# Altium footprint library myPCB.PcbLib: 96 footprints (part 5 of 6)
Each footprint in its own frame and in the unit in brackets; x right, y up, seen from the top. Pads: shape width x height; smd on the part's side, far side on the other; paste and mask are expansions set on the pad; w line width, h text height; cw(c..) or ccw(c..) is an arc to the next point about the centre after c.
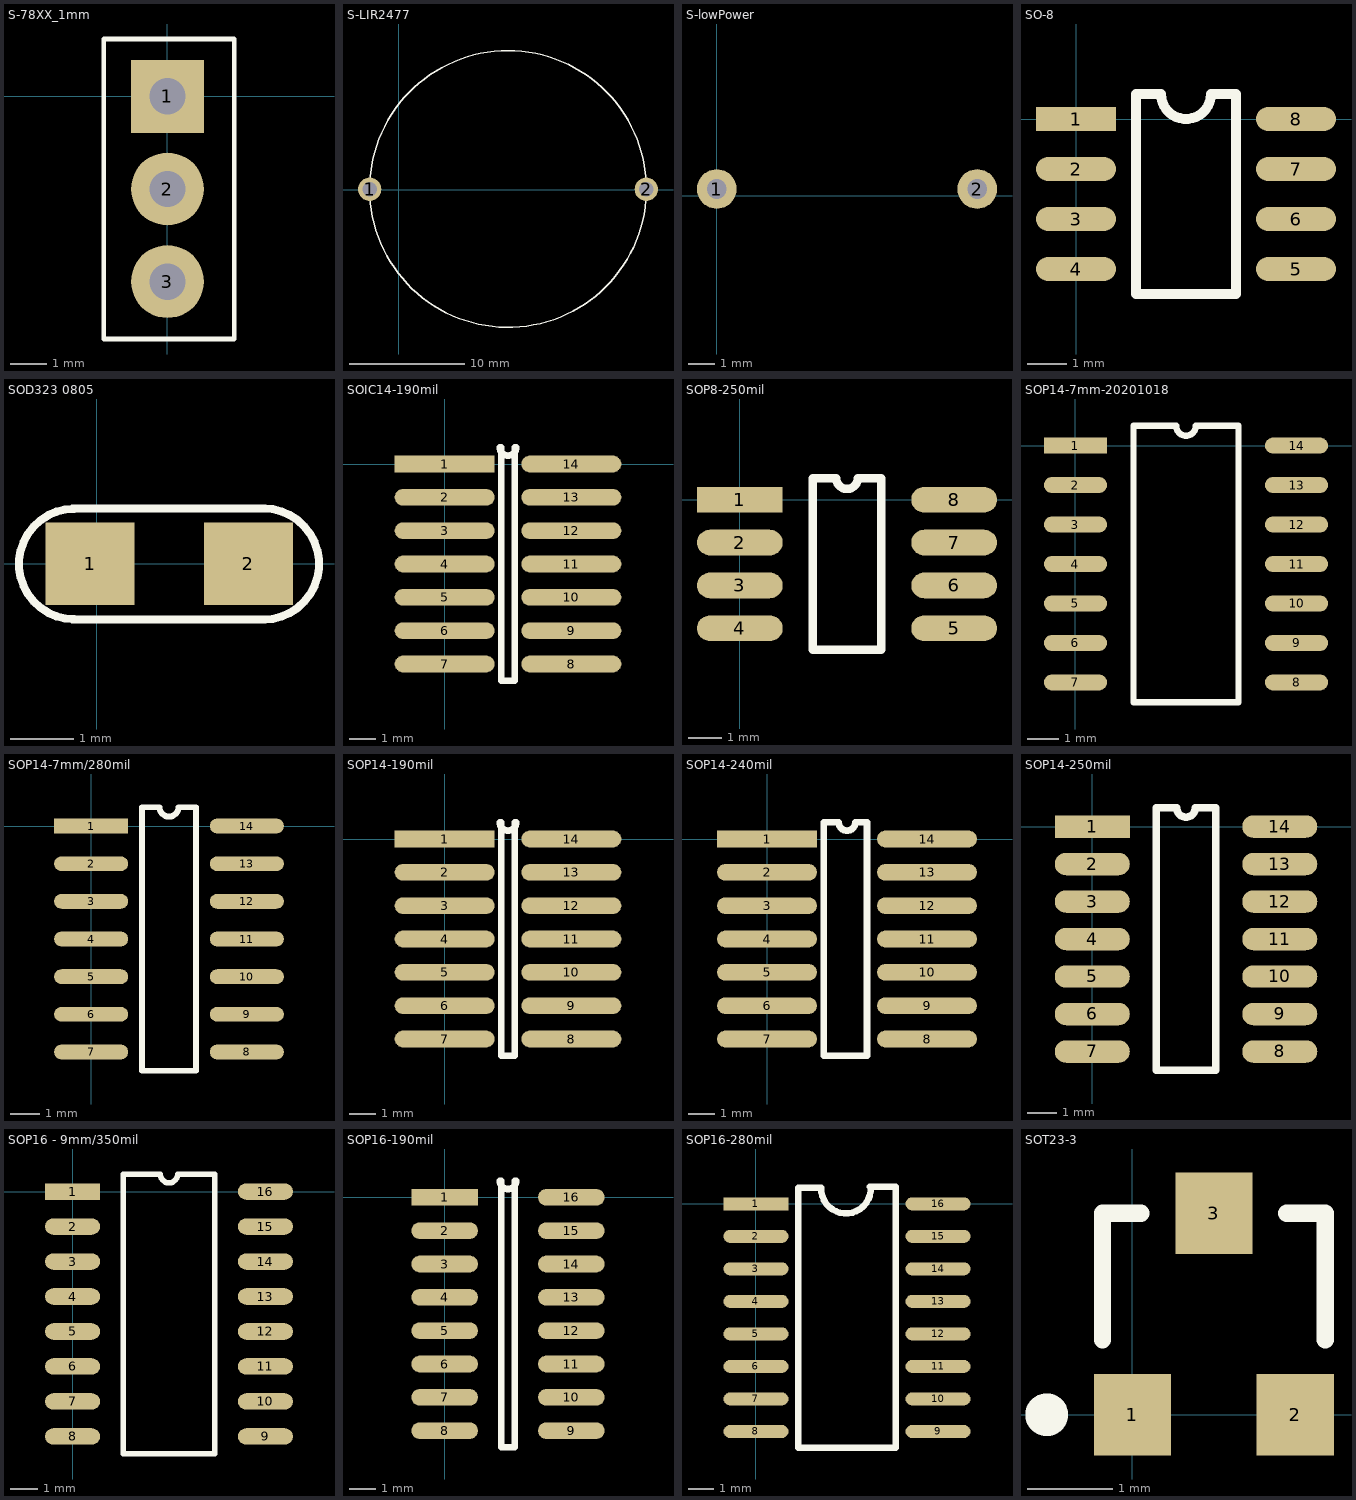
[diagram p4: the footprints below, top view; thin cyan lines are the x and y axes]

## S-78XX_1mm [mm] "孔的大小为1mm"
pads (3):
  rect 2x2 hole 1: 1(0,0)
  round 2 hole 1: 2(0,-2.54) 3(0,-5.08)
Top Overlay:
  lines w0.127: -1.753,-6.655 1.835,-6.655 1.835,1.575 -1.753,1.575 -1.753,-6.655
3D body "l7805cv-dg.STEP": height 20.5, standoff -8.4, extent -2.214,-7.691 2.286,2.509

## S-LIR2477 [mil] "3.6V 纽扣电池"
height 354.33
pads (2):
  round 80 hole 50: 1(-99.09,2.16) 2(849,2)
Top Overlay:
  lines w5: -99.09,2.16 ccw(c375,3) -99.03,11.12

## S-lowPower [mil] "3.6V 纽扣电池"
height 354.33
pads (2):
  round 60 hole 30: 1(0,10) 2(394,10)

## SO-8 [mil]
pads (8):
  rect 80x24 smd: 1(0,0)
  oval 80x24 smd: 2(0,-50) 3(0,-100) 4(0,-150) 5(220,-150) 6(220,-100) 7(220,-50) 8(220,0)
Top Overlay:
  lines w10: 60,-175 160,-175 160,25 135,25 cw(c110,25) 85,25 60,25 60,-175
3D body "SO-8 (PIC12FXXX).STEP": height 106.3, standoff 43.31, extent -10.91,-172.45 224.91,20.46

## SOD323 0805 [mm] "贴片二极管"
pads (2):
  rect 1.4x1.3 smd: 1(-0.102,0) 2(2.388,0)
Top Overlay:
  lines w0.127: -0.377,-0.876 2.647,-0.876 ; -0.377,0.871 2.647,0.871 ; -0.351,-0.87 cw(c-0.351,-0.003) -0.351,0.865 ; 2.622,-0.876 ccw(c2.622,-0.003) 2.622,0.871
3D body "0805_R.STEP": height 0.55, standoff 0, extent 0.143,-0.65 2.143,0.6

## SOIC14-190mil [mil]
pads (14):
  rect 150x25 smd: 1(0,0)
  oval 150x25 smd: 2(0,-50) 3(0,-100) 4(0,-150) 5(0,-200) 6(0,-250) 7(0,-300) 8(190,-300) 9(190,-250) 10(190,-200) 11(190,-150) 12(190,-100) 13(190,-50) 14(190,0)
Top Overlay:
  lines w10: 82.5,25 ccw(c95,25) 107.5,25 105,25 105,-325 85,-325 85,25 82.5,25

## SOP8-250mil [mil] "中心宽度250mil，吸盘间距默认，长度默认"
pads (8):
  rect 100x30 smd: 1(0,0)
  oval 100x30 smd: 2(0,-50) 3(0,-100) 4(0,-150) 5(250,-150) 6(250,-100) 7(250,-50) 8(250,0)
Top Overlay:
  lines w10: 85,-175 165,-175 165,25 137.5,25 cw(c125,25) 112.5,25 85,25 85,-175
3D body "SOP-8.STEP": height 29.53, standoff -33.86, extent 4.95,-174.42 249.05,22.43

## SOP14-7mm-20201018 [mm] "焊盘中间距离7mm/270mil，焊盘宽度0.5mm，长度2mm"
pads (14):
  rect 2x0.5 smd: 1(0,0)
  oval 2x0.5 smd: 2(0,-1.25) 3(0,-2.5) 4(0,-3.75) 5(0,-5) 6(0,-6.25) 7(0,-7.5) 8(7,-7.5) 9(7,-6.25) 10(7,-5) 11(7,-3.75) 12(7,-2.5) 13(7,-1.25) 14(7,0)
Top Overlay:
  lines w0.2: 1.835,-8.125 1.835,0.625 3.188,0.625 ccw(c3.5,0.625) 3.812,0.625 5.165,0.625 5.165,-8.125 1.835,-8.125
3D body "User Library-SOP14-p127-780.STEP": height 1.1, standoff 0, extent -0.102,-8.259 7.198,0.711

## SOP14-7mm/280mil [mm] "焊盘最远距离7mm/270mil，焊盘宽度0.5mm，"
pads (14):
  rect 2.5x0.5 smd: 1(0,0)
  oval 2.5x0.5 smd: 2(0,-1.27) 3(0,-2.54) 4(0,-3.81) 5(0,-5.08) 6(0,-6.35) 7(0,-7.62) 8(5.25,-7.62) 9(5.25,-6.35) 10(5.25,-5.08) 11(5.25,-3.81) 12(5.25,-2.54) 13(5.25,-1.27) 14(5.25,0)
Top Overlay:
  lines w0.2: 1.71,-8.255 1.71,0.635 2.307,0.635 ccw(c2.625,0.635) 2.942,0.635 3.54,0.635 3.54,-8.255 1.71,-8.255

## SOP14-190mil [mil]
pads (14):
  rect 150x25 smd: 1(0,0)
  oval 150x25 smd: 2(0,-50) 3(0,-100) 4(0,-150) 5(0,-200) 6(0,-250) 7(0,-300) 8(190,-300) 9(190,-250) 10(190,-200) 11(190,-150) 12(190,-100) 13(190,-50) 14(190,0)
Top Overlay:
  lines w10: 82.5,25 ccw(c95,25) 107.5,25 105,25 105,-325 85,-325 85,25 82.5,25

## SOP14-240mil [mil]
pads (14):
  rect 150x25 smd: 1(0,0)
  oval 150x25 smd: 2(0,-50) 3(0,-100) 4(0,-150) 5(0,-200) 6(0,-250) 7(0,-300) 8(240,-300) 9(240,-250) 10(240,-200) 11(240,-150) 12(240,-100) 13(240,-50) 14(240,0)
Top Overlay:
  lines w10: 85,-325 85,25 107.5,25 ccw(c120,25) 132.5,25 150,25 150,-325 85,-325

## SOP14-250mil [mil]
pads (14):
  rect 100x30 smd: 1(0,0)
  oval 100x30 smd: 2(0,-50) 3(0,-100) 4(0,-150) 5(0,-200) 6(0,-250) 7(0,-300) 8(250,-300) 9(250,-250) 10(250,-200) 11(250,-150) 12(250,-100) 13(250,-50) 14(250,0)
Top Overlay:
  lines w10: 85,-325 85,25 112.5,25 ccw(c125,25) 137.5,25 165,25 165,-325 85,-325

## SOP16 - 9mm/350mil [mm] "焊盘最远距离9mm/350mil，焊盘宽度0.6mm，"
pads (16):
  rect 2x0.6 smd: 1(0,0)
  oval 2x0.6 smd: 2(0,-1.27) 3(0,-2.54) 4(0,-3.81) 5(0,-5.08) 6(0,-6.35) 7(0,-7.62) 8(0,-8.89) 9(7,-8.89) 10(7,-7.62) 11(7,-6.35) 12(7,-5.08) 13(7,-3.81) 14(7,-2.54) 15(7,-1.27) 16(7,0)
Top Overlay:
  lines w0.2: 1.835,-9.525 5.165,-9.525 5.165,0.635 3.818,0.635 cw(c3.5,0.635) 3.183,0.635 1.835,0.635 1.835,-9.525
3D body "SOP16.STEP": height 1.75, standoff 0.14, extent 0.354,-9.47 6.554,0.53

## SOP16-190mil [mil]
pads (16):
  rect 100x25 smd: 1(0,0)
  oval 100x25 smd: 2(0,-50) 3(0,-100) 4(0,-150) 5(0,-200) 6(0,-250) 7(0,-300) 8(0,-350) 9(190,-350) 10(190,-300) 11(190,-250) 12(190,-200) 13(190,-150) 14(190,-100) 15(190,-50) 16(190,0)
Top Overlay:
  lines w10: 82.5,25 ccw(c95,25) 107.5,25 105,25 105,-375 85,-375 85,25 82.5,25

## SOP16-280mil [mil] "宽度280mil"
pads (16):
  rect 100x20 smd: 1(0,0)
  oval 100x20 smd: 2(0,-50) 3(0,-100) 4(0,-150) 5(0,-200) 6(0,-250) 7(0,-300) 8(0,-350) 9(279.92,-350) 10(279.92,-300) 11(279.92,-250) 12(279.92,-200) 13(279.92,-150) 14(279.92,-100) 15(279.92,-50) 16(279.92,0)
Top Overlay:
  lines w10: 100.35,24.61 ccw(c138.32,23.24) 176.25,25.6 ; 100.39,25 65,25 65,-375 215,-375 ; 175.2,25.98 214.92,25.98 214.92,-375
3D body "SOP16.STEP": height 68.9, standoff 5.51, extent 14.95,-373.84 259.05,19.86

## SOT23-3 [mm]
pads (3):
  rect 0.9x0.95 smd: 1(0,0) 2(1.9,0) 3(0.95,2.35)
Top Overlay:
  circle w0.25: c-1,0 r0.125
  lines w0.2: -0.35,0.875 -0.35,2.35 0.1,2.35 ; 1.8,2.35 2.25,2.35 2.25,0.875